# EAGLE library part LSF0204DRUTR (library circuit_tree)
IC
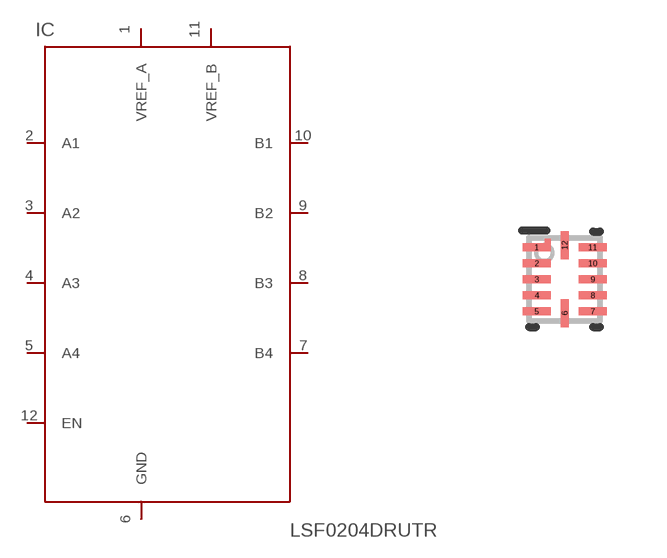
[diagram p4: symbol with the pads of RUT0012A; footprint RUT0012A]

Designator prefix IC

## LSF0204DRUTR  [RUT0012A]
1  VREF_A  pas
2  A1  pas
3  A2  pas
4  A3  pas
5  A4  pas
6  GND  pas
7  B4  pas
8  B3  pas
9  B2  pas
10  B1  pas
11  VREF_B  pas
12  EN  pas

## Footprint RUT0012A (pad centres in mm)
smd 0.7 x 0.2: 1 -0.7,0.8; 2 -0.7,0.4; 3 -0.7,0; 4 -0.7,-0.4; 5 -0.7,-0.8; 7 0.7,-0.8; 8 0.7,-0.4; 9 0.7,0; 10 0.7,0.4; 11 0.7,0.8
smd 0.2 x 0.7: 6 0,-0.85; 12 0,0.85